# Altium footprint library Connector_Samtec_HLE_SMD.PcbLib: 290 footprints (part 7 of 24)
Each footprint in its own frame and in the unit in brackets; x right, y up, seen from the top. Pads: shape width x height; smd on the part's side, far side on the other; paste and mask are expansions set on the pad; w line width, h text height; cw(c..) or ccw(c..) is an arc to the next point about the centre after c.
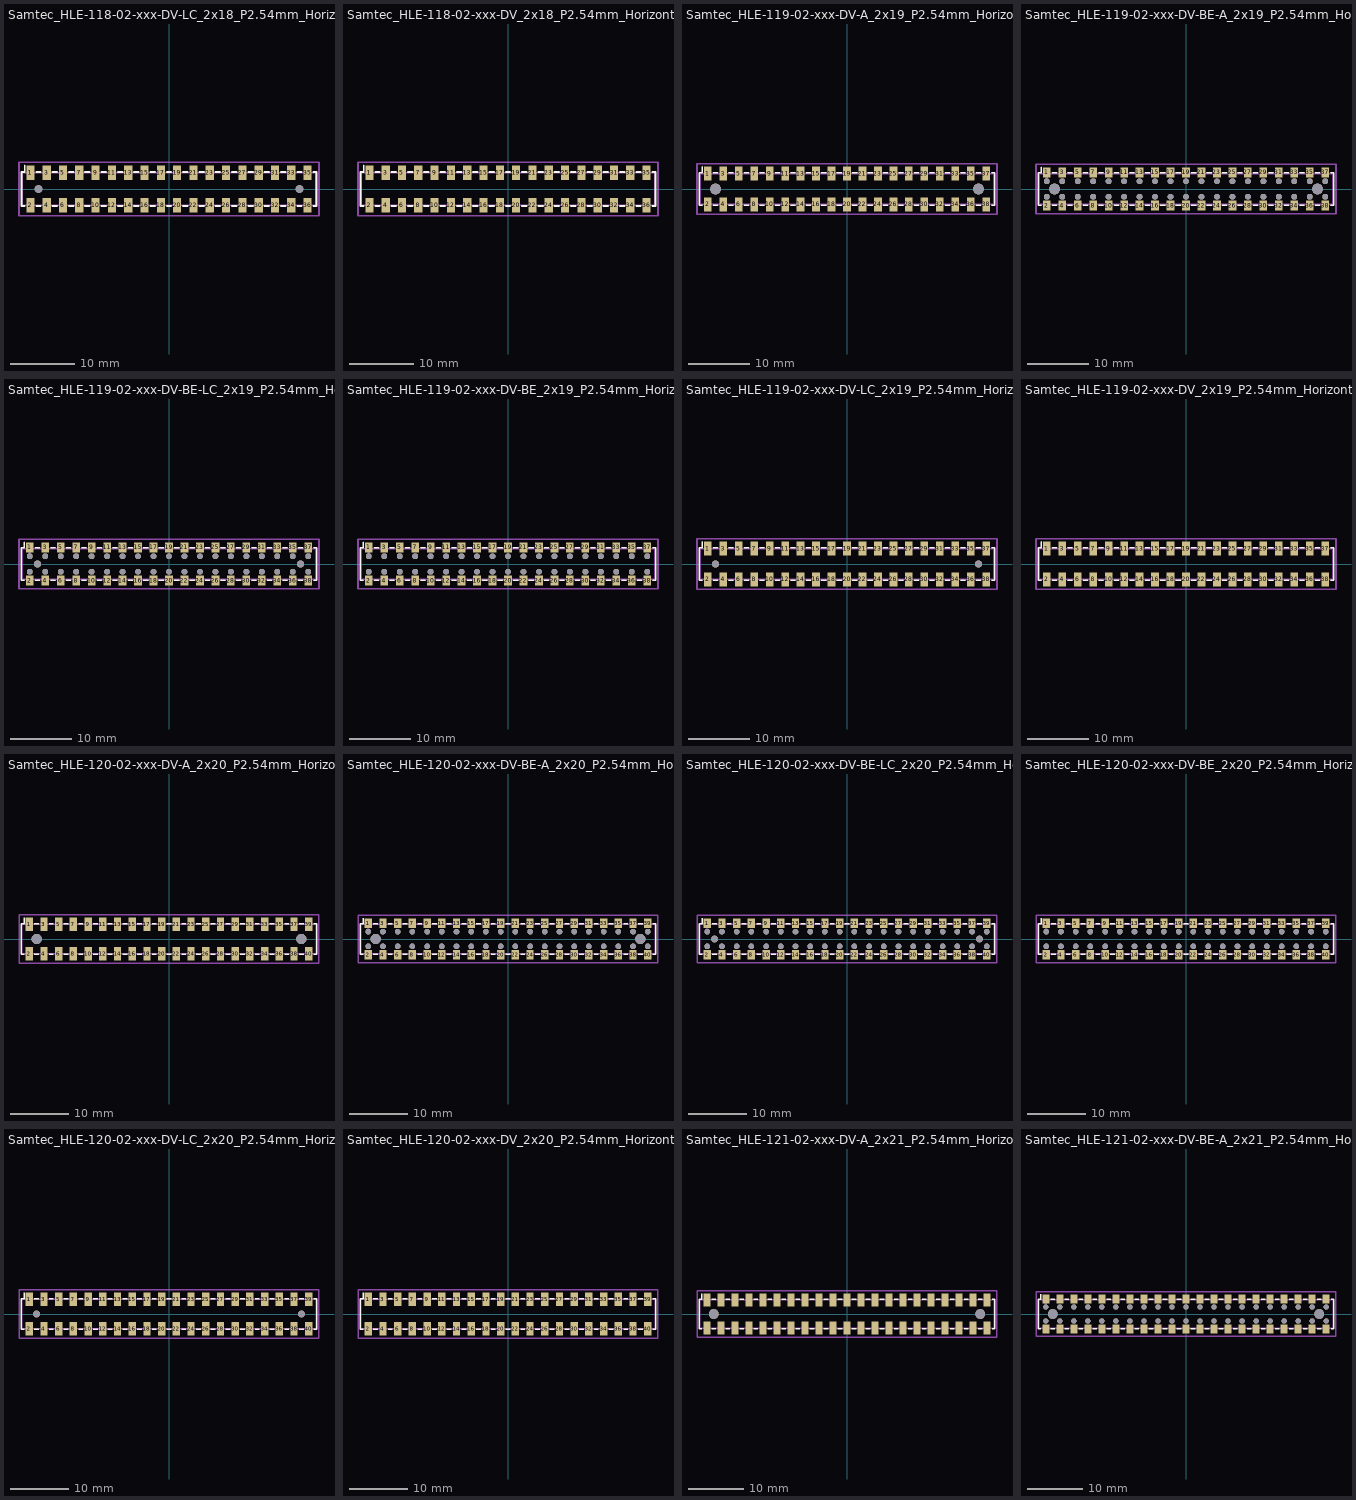
[diagram p6: the footprints below, top view; thin cyan lines are the x and y axes]

## Samtec_HLE-118-02-xxx-DV-LC_2x18_P2.54mm_Horizontal [mm]
pads (38):
  rect 1.27x2.29 smd: 1(-21.59,2.525) 2(-21.59,-2.525) 3(-19.05,2.525) 4(-19.05,-2.525) 5(-16.51,2.525) 6(-16.51,-2.525) 7(-13.97,2.525) 8(-13.97,-2.525) 9(-11.43,2.525) 10(-11.43,-2.525) 11(-8.89,2.525) 12(-8.89,-2.525) 13(-6.35,2.525) 14(-6.35,-2.525) 15(-3.81,2.525) 16(-3.81,-2.525) 17(-1.27,2.525) 18(-1.27,-2.525) 19(1.27,2.525) 20(1.27,-2.525) 21(3.81,2.525) 22(3.81,-2.525) 23(6.35,2.525) 24(6.35,-2.525) 25(8.89,2.525) 26(8.89,-2.525) 27(11.43,2.525) 28(11.43,-2.525) 29(13.97,2.525) 30(13.97,-2.525) 31(16.51,2.525) 32(16.51,-2.525) 33(19.05,2.525) 34(19.05,-2.525) 35(21.59,2.525) 36(21.59,-2.525)
  round 1.19 hole 1.19: Un1(-20.32,0) Un2(20.32,0)
F.SilkS:
  lines w0.254: -22.485,-2.65 -22.97,-2.65 -22.97,2.65 -22.485,2.65 -22.485,3.67 ; -20.695,-2.65 -19.945,-2.65 ; -20.695,2.65 -19.945,2.65 ; -18.155,-2.65 -17.405,-2.65 ; -18.155,2.65 -17.405,2.65 ; -15.615,-2.65 -14.865,-2.65 ; -15.615,2.65 -14.865,2.65 ; -13.075,-2.65 -12.325,-2.65 ; -13.075,2.65 -12.325,2.65 ; -10.535,-2.65 -9.785,-2.65 ; -10.535,2.65 -9.785,2.65 ; -7.995,-2.65 -7.245,-2.65 ; -7.995,2.65 -7.245,2.65 ; -5.455,-2.65 -4.705,-2.65 ; -5.455,2.65 -4.705,2.65 ; -2.915,-2.65 -2.165,-2.65 ; -2.915,2.65 -2.165,2.65 ; -0.375,-2.65 0.375,-2.65 ; -0.375,2.65 0.375,2.65 ; 2.165,-2.65 2.915,-2.65 ; 2.165,2.65 2.915,2.65 ; 4.705,-2.65 5.455,-2.65 ; 4.705,2.65 5.455,2.65 ; 7.245,-2.65 7.995,-2.65 ; 7.245,2.65 7.995,2.65 ; 9.785,-2.65 10.535,-2.65 ; 9.785,2.65 10.535,2.65 ; 12.325,-2.65 13.075,-2.65 ; 12.325,2.65 13.075,2.65 ; 14.865,-2.65 15.615,-2.65 ; 14.865,2.65 15.615,2.65 ; 17.405,-2.65 18.155,-2.65 ; 17.405,2.65 18.155,2.65 ; 19.945,-2.65 20.695,-2.65 ; 19.945,2.65 20.695,2.65 ; 22.485,-2.65 22.97,-2.65 22.97,2.65 22.485,2.65
Top Assembly:
  lines w0.254: -22.09,2.54 -21.59,1.833 -21.09,2.54 ; -22.86,-2.54 22.86,-2.54 22.86,2.54 -22.86,2.54 -22.86,-2.54
  text "'.Designator'" at -4.047,-2.68 h1
Top Courtyard:
  lines w0.254: -23.36,-4.17 23.36,-4.17 23.36,4.17 -23.36,4.17 -23.36,-4.17
Top Designator:
  text ".Designator" at -7.618,-0.508 h1.52

## Samtec_HLE-118-02-xxx-DV_2x18_P2.54mm_Horizontal [mm]
pads (36):
  rect 1.27x2.29 smd: 1(-21.59,2.525) 2(-21.59,-2.525) 3(-19.05,2.525) 4(-19.05,-2.525) 5(-16.51,2.525) 6(-16.51,-2.525) 7(-13.97,2.525) 8(-13.97,-2.525) 9(-11.43,2.525) 10(-11.43,-2.525) 11(-8.89,2.525) 12(-8.89,-2.525) 13(-6.35,2.525) 14(-6.35,-2.525) 15(-3.81,2.525) 16(-3.81,-2.525) 17(-1.27,2.525) 18(-1.27,-2.525) 19(1.27,2.525) 20(1.27,-2.525) 21(3.81,2.525) 22(3.81,-2.525) 23(6.35,2.525) 24(6.35,-2.525) 25(8.89,2.525) 26(8.89,-2.525) 27(11.43,2.525) 28(11.43,-2.525) 29(13.97,2.525) 30(13.97,-2.525) 31(16.51,2.525) 32(16.51,-2.525) 33(19.05,2.525) 34(19.05,-2.525) 35(21.59,2.525) 36(21.59,-2.525)
F.SilkS:
  lines w0.254: -22.485,-2.65 -22.97,-2.65 -22.97,2.65 -22.485,2.65 -22.485,3.67 ; -20.695,-2.65 -19.945,-2.65 ; -20.695,2.65 -19.945,2.65 ; -18.155,-2.65 -17.405,-2.65 ; -18.155,2.65 -17.405,2.65 ; -15.615,-2.65 -14.865,-2.65 ; -15.615,2.65 -14.865,2.65 ; -13.075,-2.65 -12.325,-2.65 ; -13.075,2.65 -12.325,2.65 ; -10.535,-2.65 -9.785,-2.65 ; -10.535,2.65 -9.785,2.65 ; -7.995,-2.65 -7.245,-2.65 ; -7.995,2.65 -7.245,2.65 ; -5.455,-2.65 -4.705,-2.65 ; -5.455,2.65 -4.705,2.65 ; -2.915,-2.65 -2.165,-2.65 ; -2.915,2.65 -2.165,2.65 ; -0.375,-2.65 0.375,-2.65 ; -0.375,2.65 0.375,2.65 ; 2.165,-2.65 2.915,-2.65 ; 2.165,2.65 2.915,2.65 ; 4.705,-2.65 5.455,-2.65 ; 4.705,2.65 5.455,2.65 ; 7.245,-2.65 7.995,-2.65 ; 7.245,2.65 7.995,2.65 ; 9.785,-2.65 10.535,-2.65 ; 9.785,2.65 10.535,2.65 ; 12.325,-2.65 13.075,-2.65 ; 12.325,2.65 13.075,2.65 ; 14.865,-2.65 15.615,-2.65 ; 14.865,2.65 15.615,2.65 ; 17.405,-2.65 18.155,-2.65 ; 17.405,2.65 18.155,2.65 ; 19.945,-2.65 20.695,-2.65 ; 19.945,2.65 20.695,2.65 ; 22.485,-2.65 22.97,-2.65 22.97,2.65 22.485,2.65
Top Assembly:
  lines w0.254: -22.09,2.54 -21.59,1.833 -21.09,2.54 ; -22.86,-2.54 22.86,-2.54 22.86,2.54 -22.86,2.54 -22.86,-2.54
  text "'.Designator'" at -4.047,-2.68 h1
Top Courtyard:
  lines w0.254: -23.36,-4.17 23.36,-4.17 23.36,4.17 -23.36,4.17 -23.36,-4.17
Top Designator:
  text ".Designator" at -7.618,-0.508 h1.52

## Samtec_HLE-119-02-xxx-DV-A_2x19_P2.54mm_Horizontal [mm]
pads (40):
  rect 1.27x2.29 smd: 1(-22.86,2.525) 2(-22.86,-2.525) 3(-20.32,2.525) 4(-20.32,-2.525) 5(-17.78,2.525) 6(-17.78,-2.525) 7(-15.24,2.525) 8(-15.24,-2.525) 9(-12.7,2.525) 10(-12.7,-2.525) 11(-10.16,2.525) 12(-10.16,-2.525) 13(-7.62,2.525) 14(-7.62,-2.525) 15(-5.08,2.525) 16(-5.08,-2.525) 17(-2.54,2.525) 18(-2.54,-2.525) 19(0,2.525) 20(0,-2.525) 21(2.54,2.525) 22(2.54,-2.525) 23(5.08,2.525) 24(5.08,-2.525) 25(7.62,2.525) 26(7.62,-2.525) 27(10.16,2.525) 28(10.16,-2.525) 29(12.7,2.525) 30(12.7,-2.525) 31(15.24,2.525) 32(15.24,-2.525) 33(17.78,2.525) 34(17.78,-2.525) 35(20.32,2.525) 36(20.32,-2.525) 37(22.86,2.525) 38(22.86,-2.525)
  round 1.78 hole 1.78: Un1(-21.59,0) Un2(21.59,0)
F.SilkS:
  lines w0.254: -23.755,-2.65 -24.24,-2.65 -24.24,2.65 -23.755,2.65 -23.755,3.67 ; -21.965,-2.65 -21.215,-2.65 ; -21.965,2.65 -21.215,2.65 ; -19.425,-2.65 -18.675,-2.65 ; -19.425,2.65 -18.675,2.65 ; -16.885,-2.65 -16.135,-2.65 ; -16.885,2.65 -16.135,2.65 ; -14.345,-2.65 -13.595,-2.65 ; -14.345,2.65 -13.595,2.65 ; -11.805,-2.65 -11.055,-2.65 ; -11.805,2.65 -11.055,2.65 ; -9.265,-2.65 -8.515,-2.65 ; -9.265,2.65 -8.515,2.65 ; -6.725,-2.65 -5.975,-2.65 ; -6.725,2.65 -5.975,2.65 ; -4.185,-2.65 -3.435,-2.65 ; -4.185,2.65 -3.435,2.65 ; -1.645,-2.65 -0.895,-2.65 ; -1.645,2.65 -0.895,2.65 ; 0.895,-2.65 1.645,-2.65 ; 0.895,2.65 1.645,2.65 ; 3.435,-2.65 4.185,-2.65 ; 3.435,2.65 4.185,2.65 ; 5.975,-2.65 6.725,-2.65 ; 5.975,2.65 6.725,2.65 ; 8.515,-2.65 9.265,-2.65 ; 8.515,2.65 9.265,2.65 ; 11.055,-2.65 11.805,-2.65 ; 11.055,2.65 11.805,2.65 ; 13.595,-2.65 14.345,-2.65 ; 13.595,2.65 14.345,2.65 ; 16.135,-2.65 16.885,-2.65 ; 16.135,2.65 16.885,2.65 ; 18.675,-2.65 19.425,-2.65 ; 18.675,2.65 19.425,2.65 ; 21.215,-2.65 21.965,-2.65 ; 21.215,2.65 21.965,2.65 ; 23.755,-2.65 24.24,-2.65 24.24,2.65 23.755,2.65
Top Assembly:
  lines w0.254: -23.36,2.54 -22.86,1.833 -22.36,2.54 ; -24.13,-2.54 24.13,-2.54 24.13,2.54 -24.13,2.54 -24.13,-2.54
  text "'.Designator'" at -4.047,-2.68 h1
Top Courtyard:
  lines w0.254: -24.63,-4.17 24.63,-4.17 24.63,4.17 -24.63,4.17 -24.63,-4.17
Top Designator:
  text ".Designator" at -7.618,-0.508 h1.52

## Samtec_HLE-119-02-xxx-DV-BE-A_2x19_P2.54mm_Horizontal [mm]
pads (78):
  rect 1.27x1.68 smd: 1(-22.86,2.72) 2(-22.86,-2.72) 3(-20.32,2.72) 4(-20.32,-2.72) 5(-17.78,2.72) 6(-17.78,-2.72) 7(-15.24,2.72) 8(-15.24,-2.72) 9(-12.7,2.72) 10(-12.7,-2.72) 11(-10.16,2.72) 12(-10.16,-2.72) 13(-7.62,2.72) 14(-7.62,-2.72) 15(-5.08,2.72) 16(-5.08,-2.72) 17(-2.54,2.72) 18(-2.54,-2.72) 19(0,2.72) 20(0,-2.72) 21(2.54,2.72) 22(2.54,-2.72) 23(5.08,2.72) 24(5.08,-2.72) 25(7.62,2.72) 26(7.62,-2.72) 27(10.16,2.72) 28(10.16,-2.72) 29(12.7,2.72) 30(12.7,-2.72) 31(15.24,2.72) 32(15.24,-2.72) 33(17.78,2.72) 34(17.78,-2.72) 35(20.32,2.72) 36(20.32,-2.72) 37(22.86,2.72) 38(22.86,-2.72)
  round 0.97 hole 0.97: Un1(-22.86,1.27) Un2(-22.86,-1.27) Un4(-20.32,1.27) Un5(-20.32,-1.27) Un6(-17.78,1.27) Un7(-17.78,-1.27) Un8(-15.24,1.27) Un9(-15.24,-1.27) Un10(-12.7,1.27) Un11(-12.7,-1.27) Un12(-10.16,1.27) Un13(-10.16,-1.27) Un14(-7.62,1.27) Un15(-7.62,-1.27) Un16(-5.08,1.27) Un17(-5.08,-1.27) Un18(-2.54,1.27) Un19(-2.54,-1.27) Un20(0,1.27) Un21(0,-1.27) Un22(2.54,1.27) Un23(2.54,-1.27) Un24(5.08,1.27) Un25(5.08,-1.27) Un26(7.62,1.27) Un27(7.62,-1.27) Un28(10.16,1.27) Un29(10.16,-1.27) Un30(12.7,1.27) Un31(12.7,-1.27) Un32(15.24,1.27) Un33(15.24,-1.27) Un34(17.78,1.27) Un35(17.78,-1.27) Un36(20.32,1.27) Un37(20.32,-1.27) Un39(22.86,1.27) Un40(22.86,-1.27)
  round 1.78 hole 1.78: Un3(-21.59,0) Un38(21.59,0)
F.SilkS:
  lines w0.254: -23.755,-2.65 -24.24,-2.65 -24.24,2.65 -23.755,2.65 -23.755,3.56 ; -21.965,-2.65 -21.215,-2.65 ; -21.965,2.65 -21.215,2.65 ; -19.425,-2.65 -18.675,-2.65 ; -19.425,2.65 -18.675,2.65 ; -16.885,-2.65 -16.135,-2.65 ; -16.885,2.65 -16.135,2.65 ; -14.345,-2.65 -13.595,-2.65 ; -14.345,2.65 -13.595,2.65 ; -11.805,-2.65 -11.055,-2.65 ; -11.805,2.65 -11.055,2.65 ; -9.265,-2.65 -8.515,-2.65 ; -9.265,2.65 -8.515,2.65 ; -6.725,-2.65 -5.975,-2.65 ; -6.725,2.65 -5.975,2.65 ; -4.185,-2.65 -3.435,-2.65 ; -4.185,2.65 -3.435,2.65 ; -1.645,-2.65 -0.895,-2.65 ; -1.645,2.65 -0.895,2.65 ; 0.895,-2.65 1.645,-2.65 ; 0.895,2.65 1.645,2.65 ; 3.435,-2.65 4.185,-2.65 ; 3.435,2.65 4.185,2.65 ; 5.975,-2.65 6.725,-2.65 ; 5.975,2.65 6.725,2.65 ; 8.515,-2.65 9.265,-2.65 ; 8.515,2.65 9.265,2.65 ; 11.055,-2.65 11.805,-2.65 ; 11.055,2.65 11.805,2.65 ; 13.595,-2.65 14.345,-2.65 ; 13.595,2.65 14.345,2.65 ; 16.135,-2.65 16.885,-2.65 ; 16.135,2.65 16.885,2.65 ; 18.675,-2.65 19.425,-2.65 ; 18.675,2.65 19.425,2.65 ; 21.215,-2.65 21.965,-2.65 ; 21.215,2.65 21.965,2.65 ; 23.755,-2.65 24.24,-2.65 24.24,2.65 23.755,2.65
Top Assembly:
  lines w0.254: -23.36,2.54 -22.86,1.833 -22.36,2.54 ; -24.13,-2.54 24.13,-2.54 24.13,2.54 -24.13,2.54 -24.13,-2.54
  text "'.Designator'" at -4.047,-2.68 h1
Top Courtyard:
  lines w0.254: -24.63,-4.07 24.63,-4.07 24.63,4.07 -24.63,4.07 -24.63,-4.07
Top Designator:
  text ".Designator" at -7.618,-0.508 h1.52

## Samtec_HLE-119-02-xxx-DV-BE-LC_2x19_P2.54mm_Horizontal [mm]
pads (78):
  rect 1.27x1.68 smd: 1(-22.86,2.72) 2(-22.86,-2.72) 3(-20.32,2.72) 4(-20.32,-2.72) 5(-17.78,2.72) 6(-17.78,-2.72) 7(-15.24,2.72) 8(-15.24,-2.72) 9(-12.7,2.72) 10(-12.7,-2.72) 11(-10.16,2.72) 12(-10.16,-2.72) 13(-7.62,2.72) 14(-7.62,-2.72) 15(-5.08,2.72) 16(-5.08,-2.72) 17(-2.54,2.72) 18(-2.54,-2.72) 19(0,2.72) 20(0,-2.72) 21(2.54,2.72) 22(2.54,-2.72) 23(5.08,2.72) 24(5.08,-2.72) 25(7.62,2.72) 26(7.62,-2.72) 27(10.16,2.72) 28(10.16,-2.72) 29(12.7,2.72) 30(12.7,-2.72) 31(15.24,2.72) 32(15.24,-2.72) 33(17.78,2.72) 34(17.78,-2.72) 35(20.32,2.72) 36(20.32,-2.72) 37(22.86,2.72) 38(22.86,-2.72)
  round 0.97 hole 0.97: Un1(-22.86,1.27) Un2(-22.86,-1.27) Un4(-20.32,1.27) Un5(-20.32,-1.27) Un6(-17.78,1.27) Un7(-17.78,-1.27) Un8(-15.24,1.27) Un9(-15.24,-1.27) Un10(-12.7,1.27) Un11(-12.7,-1.27) Un12(-10.16,1.27) Un13(-10.16,-1.27) Un14(-7.62,1.27) Un15(-7.62,-1.27) Un16(-5.08,1.27) Un17(-5.08,-1.27) Un18(-2.54,1.27) Un19(-2.54,-1.27) Un20(0,1.27) Un21(0,-1.27) Un22(2.54,1.27) Un23(2.54,-1.27) Un24(5.08,1.27) Un25(5.08,-1.27) Un26(7.62,1.27) Un27(7.62,-1.27) Un28(10.16,1.27) Un29(10.16,-1.27) Un30(12.7,1.27) Un31(12.7,-1.27) Un32(15.24,1.27) Un33(15.24,-1.27) Un34(17.78,1.27) Un35(17.78,-1.27) Un36(20.32,1.27) Un37(20.32,-1.27) Un39(22.86,1.27) Un40(22.86,-1.27)
  round 1.19 hole 1.19: Un3(-21.59,0) Un38(21.59,0)
F.SilkS:
  lines w0.254: -23.755,-2.65 -24.24,-2.65 -24.24,2.65 -23.755,2.65 -23.755,3.56 ; -21.965,-2.65 -21.215,-2.65 ; -21.965,2.65 -21.215,2.65 ; -19.425,-2.65 -18.675,-2.65 ; -19.425,2.65 -18.675,2.65 ; -16.885,-2.65 -16.135,-2.65 ; -16.885,2.65 -16.135,2.65 ; -14.345,-2.65 -13.595,-2.65 ; -14.345,2.65 -13.595,2.65 ; -11.805,-2.65 -11.055,-2.65 ; -11.805,2.65 -11.055,2.65 ; -9.265,-2.65 -8.515,-2.65 ; -9.265,2.65 -8.515,2.65 ; -6.725,-2.65 -5.975,-2.65 ; -6.725,2.65 -5.975,2.65 ; -4.185,-2.65 -3.435,-2.65 ; -4.185,2.65 -3.435,2.65 ; -1.645,-2.65 -0.895,-2.65 ; -1.645,2.65 -0.895,2.65 ; 0.895,-2.65 1.645,-2.65 ; 0.895,2.65 1.645,2.65 ; 3.435,-2.65 4.185,-2.65 ; 3.435,2.65 4.185,2.65 ; 5.975,-2.65 6.725,-2.65 ; 5.975,2.65 6.725,2.65 ; 8.515,-2.65 9.265,-2.65 ; 8.515,2.65 9.265,2.65 ; 11.055,-2.65 11.805,-2.65 ; 11.055,2.65 11.805,2.65 ; 13.595,-2.65 14.345,-2.65 ; 13.595,2.65 14.345,2.65 ; 16.135,-2.65 16.885,-2.65 ; 16.135,2.65 16.885,2.65 ; 18.675,-2.65 19.425,-2.65 ; 18.675,2.65 19.425,2.65 ; 21.215,-2.65 21.965,-2.65 ; 21.215,2.65 21.965,2.65 ; 23.755,-2.65 24.24,-2.65 24.24,2.65 23.755,2.65
Top Assembly:
  lines w0.254: -23.36,2.54 -22.86,1.833 -22.36,2.54 ; -24.13,-2.54 24.13,-2.54 24.13,2.54 -24.13,2.54 -24.13,-2.54
  text "'.Designator'" at -4.047,-2.68 h1
Top Courtyard:
  lines w0.254: -24.63,-4.07 24.63,-4.07 24.63,4.07 -24.63,4.07 -24.63,-4.07
Top Designator:
  text ".Designator" at -7.618,-0.508 h1.52

## Samtec_HLE-119-02-xxx-DV-BE_2x19_P2.54mm_Horizontal [mm]
pads (76):
  rect 1.27x1.68 smd: 1(-22.86,2.72) 2(-22.86,-2.72) 3(-20.32,2.72) 4(-20.32,-2.72) 5(-17.78,2.72) 6(-17.78,-2.72) 7(-15.24,2.72) 8(-15.24,-2.72) 9(-12.7,2.72) 10(-12.7,-2.72) 11(-10.16,2.72) 12(-10.16,-2.72) 13(-7.62,2.72) 14(-7.62,-2.72) 15(-5.08,2.72) 16(-5.08,-2.72) 17(-2.54,2.72) 18(-2.54,-2.72) 19(0,2.72) 20(0,-2.72) 21(2.54,2.72) 22(2.54,-2.72) 23(5.08,2.72) 24(5.08,-2.72) 25(7.62,2.72) 26(7.62,-2.72) 27(10.16,2.72) 28(10.16,-2.72) 29(12.7,2.72) 30(12.7,-2.72) 31(15.24,2.72) 32(15.24,-2.72) 33(17.78,2.72) 34(17.78,-2.72) 35(20.32,2.72) 36(20.32,-2.72) 37(22.86,2.72) 38(22.86,-2.72)
  round 0.97 hole 0.97: Un1(-22.86,1.27) Un2(-22.86,-1.27) Un3(-20.32,1.27) Un4(-20.32,-1.27) Un5(-17.78,1.27) Un6(-17.78,-1.27) Un7(-15.24,1.27) Un8(-15.24,-1.27) Un9(-12.7,1.27) Un10(-12.7,-1.27) Un11(-10.16,1.27) Un12(-10.16,-1.27) Un13(-7.62,1.27) Un14(-7.62,-1.27) Un15(-5.08,1.27) Un16(-5.08,-1.27) Un17(-2.54,1.27) Un18(-2.54,-1.27) Un19(0,1.27) Un20(0,-1.27) Un21(2.54,1.27) Un22(2.54,-1.27) Un23(5.08,1.27) Un24(5.08,-1.27) Un25(7.62,1.27) Un26(7.62,-1.27) Un27(10.16,1.27) Un28(10.16,-1.27) Un29(12.7,1.27) Un30(12.7,-1.27) Un31(15.24,1.27) Un32(15.24,-1.27) Un33(17.78,1.27) Un34(17.78,-1.27) Un35(20.32,1.27) Un36(20.32,-1.27) Un37(22.86,1.27) Un38(22.86,-1.27)
F.SilkS:
  lines w0.254: -23.755,-2.65 -24.24,-2.65 -24.24,2.65 -23.755,2.65 -23.755,3.56 ; -21.965,-2.65 -21.215,-2.65 ; -21.965,2.65 -21.215,2.65 ; -19.425,-2.65 -18.675,-2.65 ; -19.425,2.65 -18.675,2.65 ; -16.885,-2.65 -16.135,-2.65 ; -16.885,2.65 -16.135,2.65 ; -14.345,-2.65 -13.595,-2.65 ; -14.345,2.65 -13.595,2.65 ; -11.805,-2.65 -11.055,-2.65 ; -11.805,2.65 -11.055,2.65 ; -9.265,-2.65 -8.515,-2.65 ; -9.265,2.65 -8.515,2.65 ; -6.725,-2.65 -5.975,-2.65 ; -6.725,2.65 -5.975,2.65 ; -4.185,-2.65 -3.435,-2.65 ; -4.185,2.65 -3.435,2.65 ; -1.645,-2.65 -0.895,-2.65 ; -1.645,2.65 -0.895,2.65 ; 0.895,-2.65 1.645,-2.65 ; 0.895,2.65 1.645,2.65 ; 3.435,-2.65 4.185,-2.65 ; 3.435,2.65 4.185,2.65 ; 5.975,-2.65 6.725,-2.65 ; 5.975,2.65 6.725,2.65 ; 8.515,-2.65 9.265,-2.65 ; 8.515,2.65 9.265,2.65 ; 11.055,-2.65 11.805,-2.65 ; 11.055,2.65 11.805,2.65 ; 13.595,-2.65 14.345,-2.65 ; 13.595,2.65 14.345,2.65 ; 16.135,-2.65 16.885,-2.65 ; 16.135,2.65 16.885,2.65 ; 18.675,-2.65 19.425,-2.65 ; 18.675,2.65 19.425,2.65 ; 21.215,-2.65 21.965,-2.65 ; 21.215,2.65 21.965,2.65 ; 23.755,-2.65 24.24,-2.65 24.24,2.65 23.755,2.65
Top Assembly:
  lines w0.254: -23.36,2.54 -22.86,1.833 -22.36,2.54 ; -24.13,-2.54 24.13,-2.54 24.13,2.54 -24.13,2.54 -24.13,-2.54
  text "'.Designator'" at -4.047,-2.68 h1
Top Courtyard:
  lines w0.254: -24.63,-4.07 24.63,-4.07 24.63,4.07 -24.63,4.07 -24.63,-4.07
Top Designator:
  text ".Designator" at -7.618,-0.508 h1.52

## Samtec_HLE-119-02-xxx-DV-LC_2x19_P2.54mm_Horizontal [mm]
pads (40):
  rect 1.27x2.29 smd: 1(-22.86,2.525) 2(-22.86,-2.525) 3(-20.32,2.525) 4(-20.32,-2.525) 5(-17.78,2.525) 6(-17.78,-2.525) 7(-15.24,2.525) 8(-15.24,-2.525) 9(-12.7,2.525) 10(-12.7,-2.525) 11(-10.16,2.525) 12(-10.16,-2.525) 13(-7.62,2.525) 14(-7.62,-2.525) 15(-5.08,2.525) 16(-5.08,-2.525) 17(-2.54,2.525) 18(-2.54,-2.525) 19(0,2.525) 20(0,-2.525) 21(2.54,2.525) 22(2.54,-2.525) 23(5.08,2.525) 24(5.08,-2.525) 25(7.62,2.525) 26(7.62,-2.525) 27(10.16,2.525) 28(10.16,-2.525) 29(12.7,2.525) 30(12.7,-2.525) 31(15.24,2.525) 32(15.24,-2.525) 33(17.78,2.525) 34(17.78,-2.525) 35(20.32,2.525) 36(20.32,-2.525) 37(22.86,2.525) 38(22.86,-2.525)
  round 1.19 hole 1.19: Un1(-21.59,0) Un2(21.59,0)
F.SilkS:
  lines w0.254: -23.755,-2.65 -24.24,-2.65 -24.24,2.65 -23.755,2.65 -23.755,3.67 ; -21.965,-2.65 -21.215,-2.65 ; -21.965,2.65 -21.215,2.65 ; -19.425,-2.65 -18.675,-2.65 ; -19.425,2.65 -18.675,2.65 ; -16.885,-2.65 -16.135,-2.65 ; -16.885,2.65 -16.135,2.65 ; -14.345,-2.65 -13.595,-2.65 ; -14.345,2.65 -13.595,2.65 ; -11.805,-2.65 -11.055,-2.65 ; -11.805,2.65 -11.055,2.65 ; -9.265,-2.65 -8.515,-2.65 ; -9.265,2.65 -8.515,2.65 ; -6.725,-2.65 -5.975,-2.65 ; -6.725,2.65 -5.975,2.65 ; -4.185,-2.65 -3.435,-2.65 ; -4.185,2.65 -3.435,2.65 ; -1.645,-2.65 -0.895,-2.65 ; -1.645,2.65 -0.895,2.65 ; 0.895,-2.65 1.645,-2.65 ; 0.895,2.65 1.645,2.65 ; 3.435,-2.65 4.185,-2.65 ; 3.435,2.65 4.185,2.65 ; 5.975,-2.65 6.725,-2.65 ; 5.975,2.65 6.725,2.65 ; 8.515,-2.65 9.265,-2.65 ; 8.515,2.65 9.265,2.65 ; 11.055,-2.65 11.805,-2.65 ; 11.055,2.65 11.805,2.65 ; 13.595,-2.65 14.345,-2.65 ; 13.595,2.65 14.345,2.65 ; 16.135,-2.65 16.885,-2.65 ; 16.135,2.65 16.885,2.65 ; 18.675,-2.65 19.425,-2.65 ; 18.675,2.65 19.425,2.65 ; 21.215,-2.65 21.965,-2.65 ; 21.215,2.65 21.965,2.65 ; 23.755,-2.65 24.24,-2.65 24.24,2.65 23.755,2.65
Top Assembly:
  lines w0.254: -23.36,2.54 -22.86,1.833 -22.36,2.54 ; -24.13,-2.54 24.13,-2.54 24.13,2.54 -24.13,2.54 -24.13,-2.54
  text "'.Designator'" at -4.047,-2.68 h1
Top Courtyard:
  lines w0.254: -24.63,-4.17 24.63,-4.17 24.63,4.17 -24.63,4.17 -24.63,-4.17
Top Designator:
  text ".Designator" at -7.618,-0.508 h1.52

## Samtec_HLE-119-02-xxx-DV_2x19_P2.54mm_Horizontal [mm]
pads (38):
  rect 1.27x2.29 smd: 1(-22.86,2.525) 2(-22.86,-2.525) 3(-20.32,2.525) 4(-20.32,-2.525) 5(-17.78,2.525) 6(-17.78,-2.525) 7(-15.24,2.525) 8(-15.24,-2.525) 9(-12.7,2.525) 10(-12.7,-2.525) 11(-10.16,2.525) 12(-10.16,-2.525) 13(-7.62,2.525) 14(-7.62,-2.525) 15(-5.08,2.525) 16(-5.08,-2.525) 17(-2.54,2.525) 18(-2.54,-2.525) 19(0,2.525) 20(0,-2.525) 21(2.54,2.525) 22(2.54,-2.525) 23(5.08,2.525) 24(5.08,-2.525) 25(7.62,2.525) 26(7.62,-2.525) 27(10.16,2.525) 28(10.16,-2.525) 29(12.7,2.525) 30(12.7,-2.525) 31(15.24,2.525) 32(15.24,-2.525) 33(17.78,2.525) 34(17.78,-2.525) 35(20.32,2.525) 36(20.32,-2.525) 37(22.86,2.525) 38(22.86,-2.525)
F.SilkS:
  lines w0.254: -23.755,-2.65 -24.24,-2.65 -24.24,2.65 -23.755,2.65 -23.755,3.67 ; -21.965,-2.65 -21.215,-2.65 ; -21.965,2.65 -21.215,2.65 ; -19.425,-2.65 -18.675,-2.65 ; -19.425,2.65 -18.675,2.65 ; -16.885,-2.65 -16.135,-2.65 ; -16.885,2.65 -16.135,2.65 ; -14.345,-2.65 -13.595,-2.65 ; -14.345,2.65 -13.595,2.65 ; -11.805,-2.65 -11.055,-2.65 ; -11.805,2.65 -11.055,2.65 ; -9.265,-2.65 -8.515,-2.65 ; -9.265,2.65 -8.515,2.65 ; -6.725,-2.65 -5.975,-2.65 ; -6.725,2.65 -5.975,2.65 ; -4.185,-2.65 -3.435,-2.65 ; -4.185,2.65 -3.435,2.65 ; -1.645,-2.65 -0.895,-2.65 ; -1.645,2.65 -0.895,2.65 ; 0.895,-2.65 1.645,-2.65 ; 0.895,2.65 1.645,2.65 ; 3.435,-2.65 4.185,-2.65 ; 3.435,2.65 4.185,2.65 ; 5.975,-2.65 6.725,-2.65 ; 5.975,2.65 6.725,2.65 ; 8.515,-2.65 9.265,-2.65 ; 8.515,2.65 9.265,2.65 ; 11.055,-2.65 11.805,-2.65 ; 11.055,2.65 11.805,2.65 ; 13.595,-2.65 14.345,-2.65 ; 13.595,2.65 14.345,2.65 ; 16.135,-2.65 16.885,-2.65 ; 16.135,2.65 16.885,2.65 ; 18.675,-2.65 19.425,-2.65 ; 18.675,2.65 19.425,2.65 ; 21.215,-2.65 21.965,-2.65 ; 21.215,2.65 21.965,2.65 ; 23.755,-2.65 24.24,-2.65 24.24,2.65 23.755,2.65
Top Assembly:
  lines w0.254: -23.36,2.54 -22.86,1.833 -22.36,2.54 ; -24.13,-2.54 24.13,-2.54 24.13,2.54 -24.13,2.54 -24.13,-2.54
  text "'.Designator'" at -4.047,-2.68 h1
Top Courtyard:
  lines w0.254: -24.63,-4.17 24.63,-4.17 24.63,4.17 -24.63,4.17 -24.63,-4.17
Top Designator:
  text ".Designator" at -7.618,-0.508 h1.52

## Samtec_HLE-120-02-xxx-DV-A_2x20_P2.54mm_Horizontal [mm]
pads (42):
  rect 1.27x2.29 smd: 1(-24.13,2.525) 2(-24.13,-2.525) 3(-21.59,2.525) 4(-21.59,-2.525) 5(-19.05,2.525) 6(-19.05,-2.525) 7(-16.51,2.525) 8(-16.51,-2.525) 9(-13.97,2.525) 10(-13.97,-2.525) 11(-11.43,2.525) 12(-11.43,-2.525) 13(-8.89,2.525) 14(-8.89,-2.525) 15(-6.35,2.525) 16(-6.35,-2.525) 17(-3.81,2.525) 18(-3.81,-2.525) 19(-1.27,2.525) 20(-1.27,-2.525) 21(1.27,2.525) 22(1.27,-2.525) 23(3.81,2.525) 24(3.81,-2.525) 25(6.35,2.525) 26(6.35,-2.525) 27(8.89,2.525) 28(8.89,-2.525) 29(11.43,2.525) 30(11.43,-2.525) 31(13.97,2.525) 32(13.97,-2.525) 33(16.51,2.525) 34(16.51,-2.525) 35(19.05,2.525) 36(19.05,-2.525) 37(21.59,2.525) 38(21.59,-2.525) 39(24.13,2.525) 40(24.13,-2.525)
  round 1.78 hole 1.78: Un1(-22.86,0) Un2(22.86,0)
F.SilkS:
  lines w0.254: -25.025,-2.65 -25.51,-2.65 -25.51,2.65 -25.025,2.65 -25.025,3.67 ; -23.235,-2.65 -22.485,-2.65 ; -23.235,2.65 -22.485,2.65 ; -20.695,-2.65 -19.945,-2.65 ; -20.695,2.65 -19.945,2.65 ; -18.155,-2.65 -17.405,-2.65 ; -18.155,2.65 -17.405,2.65 ; -15.615,-2.65 -14.865,-2.65 ; -15.615,2.65 -14.865,2.65 ; -13.075,-2.65 -12.325,-2.65 ; -13.075,2.65 -12.325,2.65 ; -10.535,-2.65 -9.785,-2.65 ; -10.535,2.65 -9.785,2.65 ; -7.995,-2.65 -7.245,-2.65 ; -7.995,2.65 -7.245,2.65 ; -5.455,-2.65 -4.705,-2.65 ; -5.455,2.65 -4.705,2.65 ; -2.915,-2.65 -2.165,-2.65 ; -2.915,2.65 -2.165,2.65 ; -0.375,-2.65 0.375,-2.65 ; -0.375,2.65 0.375,2.65 ; 2.165,-2.65 2.915,-2.65 ; 2.165,2.65 2.915,2.65 ; 4.705,-2.65 5.455,-2.65 ; 4.705,2.65 5.455,2.65 ; 7.245,-2.65 7.995,-2.65 ; 7.245,2.65 7.995,2.65 ; 9.785,-2.65 10.535,-2.65 ; 9.785,2.65 10.535,2.65 ; 12.325,-2.65 13.075,-2.65 ; 12.325,2.65 13.075,2.65 ; 14.865,-2.65 15.615,-2.65 ; 14.865,2.65 15.615,2.65 ; 17.405,-2.65 18.155,-2.65 ; 17.405,2.65 18.155,2.65 ; 19.945,-2.65 20.695,-2.65 ; 19.945,2.65 20.695,2.65 ; 22.485,-2.65 23.235,-2.65 ; 22.485,2.65 23.235,2.65 ; 25.025,-2.65 25.51,-2.65 25.51,2.65 25.025,2.65
Top Assembly:
  lines w0.254: -24.63,2.54 -24.13,1.833 -23.63,2.54 ; -25.4,-2.54 25.4,-2.54 25.4,2.54 -25.4,2.54 -25.4,-2.54
  text "'.Designator'" at -4.047,-2.68 h1
Top Courtyard:
  lines w0.254: -25.9,-4.17 25.9,-4.17 25.9,4.17 -25.9,4.17 -25.9,-4.17
Top Designator:
  text ".Designator" at -7.618,-0.508 h1.52

## Samtec_HLE-120-02-xxx-DV-BE-A_2x20_P2.54mm_Horizontal [mm]
pads (82):
  rect 1.27x1.68 smd: 1(-24.13,2.72) 2(-24.13,-2.72) 3(-21.59,2.72) 4(-21.59,-2.72) 5(-19.05,2.72) 6(-19.05,-2.72) 7(-16.51,2.72) 8(-16.51,-2.72) 9(-13.97,2.72) 10(-13.97,-2.72) 11(-11.43,2.72) 12(-11.43,-2.72) 13(-8.89,2.72) 14(-8.89,-2.72) 15(-6.35,2.72) 16(-6.35,-2.72) 17(-3.81,2.72) 18(-3.81,-2.72) 19(-1.27,2.72) 20(-1.27,-2.72) 21(1.27,2.72) 22(1.27,-2.72) 23(3.81,2.72) 24(3.81,-2.72) 25(6.35,2.72) 26(6.35,-2.72) 27(8.89,2.72) 28(8.89,-2.72) 29(11.43,2.72) 30(11.43,-2.72) 31(13.97,2.72) 32(13.97,-2.72) 33(16.51,2.72) 34(16.51,-2.72) 35(19.05,2.72) 36(19.05,-2.72) 37(21.59,2.72) 38(21.59,-2.72) 39(24.13,2.72) 40(24.13,-2.72)
  round 0.97 hole 0.97: Un1(-24.13,1.27) Un2(-24.13,-1.27) Un4(-21.59,1.27) Un5(-21.59,-1.27) Un6(-19.05,1.27) Un7(-19.05,-1.27) Un8(-16.51,1.27) Un9(-16.51,-1.27) Un10(-13.97,1.27) Un11(-13.97,-1.27) Un12(-11.43,1.27) Un13(-11.43,-1.27) Un14(-8.89,1.27) Un15(-8.89,-1.27) Un16(-6.35,1.27) Un17(-6.35,-1.27) Un18(-3.81,1.27) Un19(-3.81,-1.27) Un20(-1.27,1.27) Un21(-1.27,-1.27) Un22(1.27,1.27) Un23(1.27,-1.27) Un24(3.81,1.27) Un25(3.81,-1.27) Un26(6.35,1.27) Un27(6.35,-1.27) Un28(8.89,1.27) Un29(8.89,-1.27) Un30(11.43,1.27) Un31(11.43,-1.27) Un32(13.97,1.27) Un33(13.97,-1.27) Un34(16.51,1.27) Un35(16.51,-1.27) Un36(19.05,1.27) Un37(19.05,-1.27) Un38(21.59,1.27) Un39(21.59,-1.27) Un41(24.13,1.27) Un42(24.13,-1.27)
  round 1.78 hole 1.78: Un3(-22.86,0) Un40(22.86,0)
F.SilkS:
  lines w0.254: -25.025,-2.65 -25.51,-2.65 -25.51,2.65 -25.025,2.65 -25.025,3.56 ; -23.235,-2.65 -22.485,-2.65 ; -23.235,2.65 -22.485,2.65 ; -20.695,-2.65 -19.945,-2.65 ; -20.695,2.65 -19.945,2.65 ; -18.155,-2.65 -17.405,-2.65 ; -18.155,2.65 -17.405,2.65 ; -15.615,-2.65 -14.865,-2.65 ; -15.615,2.65 -14.865,2.65 ; -13.075,-2.65 -12.325,-2.65 ; -13.075,2.65 -12.325,2.65 ; -10.535,-2.65 -9.785,-2.65 ; -10.535,2.65 -9.785,2.65 ; -7.995,-2.65 -7.245,-2.65 ; -7.995,2.65 -7.245,2.65 ; -5.455,-2.65 -4.705,-2.65 ; -5.455,2.65 -4.705,2.65 ; -2.915,-2.65 -2.165,-2.65 ; -2.915,2.65 -2.165,2.65 ; -0.375,-2.65 0.375,-2.65 ; -0.375,2.65 0.375,2.65 ; 2.165,-2.65 2.915,-2.65 ; 2.165,2.65 2.915,2.65 ; 4.705,-2.65 5.455,-2.65 ; 4.705,2.65 5.455,2.65 ; 7.245,-2.65 7.995,-2.65 ; 7.245,2.65 7.995,2.65 ; 9.785,-2.65 10.535,-2.65 ; 9.785,2.65 10.535,2.65 ; 12.325,-2.65 13.075,-2.65 ; 12.325,2.65 13.075,2.65 ; 14.865,-2.65 15.615,-2.65 ; 14.865,2.65 15.615,2.65 ; 17.405,-2.65 18.155,-2.65 ; 17.405,2.65 18.155,2.65 ; 19.945,-2.65 20.695,-2.65 ; 19.945,2.65 20.695,2.65 ; 22.485,-2.65 23.235,-2.65 ; 22.485,2.65 23.235,2.65 ; 25.025,-2.65 25.51,-2.65 25.51,2.65 25.025,2.65
Top Assembly:
  lines w0.254: -24.63,2.54 -24.13,1.833 -23.63,2.54 ; -25.4,-2.54 25.4,-2.54 25.4,2.54 -25.4,2.54 -25.4,-2.54
  text "'.Designator'" at -4.047,-2.68 h1
Top Courtyard:
  lines w0.254: -25.9,-4.07 25.9,-4.07 25.9,4.07 -25.9,4.07 -25.9,-4.07
Top Designator:
  text ".Designator" at -7.618,-0.508 h1.52

## Samtec_HLE-120-02-xxx-DV-BE-LC_2x20_P2.54mm_Horizontal [mm]
pads (82):
  rect 1.27x1.68 smd: 1(-24.13,2.72) 2(-24.13,-2.72) 3(-21.59,2.72) 4(-21.59,-2.72) 5(-19.05,2.72) 6(-19.05,-2.72) 7(-16.51,2.72) 8(-16.51,-2.72) 9(-13.97,2.72) 10(-13.97,-2.72) 11(-11.43,2.72) 12(-11.43,-2.72) 13(-8.89,2.72) 14(-8.89,-2.72) 15(-6.35,2.72) 16(-6.35,-2.72) 17(-3.81,2.72) 18(-3.81,-2.72) 19(-1.27,2.72) 20(-1.27,-2.72) 21(1.27,2.72) 22(1.27,-2.72) 23(3.81,2.72) 24(3.81,-2.72) 25(6.35,2.72) 26(6.35,-2.72) 27(8.89,2.72) 28(8.89,-2.72) 29(11.43,2.72) 30(11.43,-2.72) 31(13.97,2.72) 32(13.97,-2.72) 33(16.51,2.72) 34(16.51,-2.72) 35(19.05,2.72) 36(19.05,-2.72) 37(21.59,2.72) 38(21.59,-2.72) 39(24.13,2.72) 40(24.13,-2.72)
  round 0.97 hole 0.97: Un1(-24.13,1.27) Un2(-24.13,-1.27) Un4(-21.59,1.27) Un5(-21.59,-1.27) Un6(-19.05,1.27) Un7(-19.05,-1.27) Un8(-16.51,1.27) Un9(-16.51,-1.27) Un10(-13.97,1.27) Un11(-13.97,-1.27) Un12(-11.43,1.27) Un13(-11.43,-1.27) Un14(-8.89,1.27) Un15(-8.89,-1.27) Un16(-6.35,1.27) Un17(-6.35,-1.27) Un18(-3.81,1.27) Un19(-3.81,-1.27) Un20(-1.27,1.27) Un21(-1.27,-1.27) Un22(1.27,1.27) Un23(1.27,-1.27) Un24(3.81,1.27) Un25(3.81,-1.27) Un26(6.35,1.27) Un27(6.35,-1.27) Un28(8.89,1.27) Un29(8.89,-1.27) Un30(11.43,1.27) Un31(11.43,-1.27) Un32(13.97,1.27) Un33(13.97,-1.27) Un34(16.51,1.27) Un35(16.51,-1.27) Un36(19.05,1.27) Un37(19.05,-1.27) Un38(21.59,1.27) Un39(21.59,-1.27) Un41(24.13,1.27) Un42(24.13,-1.27)
  round 1.19 hole 1.19: Un3(-22.86,0) Un40(22.86,0)
F.SilkS:
  lines w0.254: -25.025,-2.65 -25.51,-2.65 -25.51,2.65 -25.025,2.65 -25.025,3.56 ; -23.235,-2.65 -22.485,-2.65 ; -23.235,2.65 -22.485,2.65 ; -20.695,-2.65 -19.945,-2.65 ; -20.695,2.65 -19.945,2.65 ; -18.155,-2.65 -17.405,-2.65 ; -18.155,2.65 -17.405,2.65 ; -15.615,-2.65 -14.865,-2.65 ; -15.615,2.65 -14.865,2.65 ; -13.075,-2.65 -12.325,-2.65 ; -13.075,2.65 -12.325,2.65 ; -10.535,-2.65 -9.785,-2.65 ; -10.535,2.65 -9.785,2.65 ; -7.995,-2.65 -7.245,-2.65 ; -7.995,2.65 -7.245,2.65 ; -5.455,-2.65 -4.705,-2.65 ; -5.455,2.65 -4.705,2.65 ; -2.915,-2.65 -2.165,-2.65 ; -2.915,2.65 -2.165,2.65 ; -0.375,-2.65 0.375,-2.65 ; -0.375,2.65 0.375,2.65 ; 2.165,-2.65 2.915,-2.65 ; 2.165,2.65 2.915,2.65 ; 4.705,-2.65 5.455,-2.65 ; 4.705,2.65 5.455,2.65 ; 7.245,-2.65 7.995,-2.65 ; 7.245,2.65 7.995,2.65 ; 9.785,-2.65 10.535,-2.65 ; 9.785,2.65 10.535,2.65 ; 12.325,-2.65 13.075,-2.65 ; 12.325,2.65 13.075,2.65 ; 14.865,-2.65 15.615,-2.65 ; 14.865,2.65 15.615,2.65 ; 17.405,-2.65 18.155,-2.65 ; 17.405,2.65 18.155,2.65 ; 19.945,-2.65 20.695,-2.65 ; 19.945,2.65 20.695,2.65 ; 22.485,-2.65 23.235,-2.65 ; 22.485,2.65 23.235,2.65 ; 25.025,-2.65 25.51,-2.65 25.51,2.65 25.025,2.65
Top Assembly:
  lines w0.254: -24.63,2.54 -24.13,1.833 -23.63,2.54 ; -25.4,-2.54 25.4,-2.54 25.4,2.54 -25.4,2.54 -25.4,-2.54
  text "'.Designator'" at -4.047,-2.68 h1
Top Courtyard:
  lines w0.254: -25.9,-4.07 25.9,-4.07 25.9,4.07 -25.9,4.07 -25.9,-4.07
Top Designator:
  text ".Designator" at -7.618,-0.508 h1.52

## Samtec_HLE-120-02-xxx-DV-BE_2x20_P2.54mm_Horizontal [mm]
pads (80):
  rect 1.27x1.68 smd: 1(-24.13,2.72) 2(-24.13,-2.72) 3(-21.59,2.72) 4(-21.59,-2.72) 5(-19.05,2.72) 6(-19.05,-2.72) 7(-16.51,2.72) 8(-16.51,-2.72) 9(-13.97,2.72) 10(-13.97,-2.72) 11(-11.43,2.72) 12(-11.43,-2.72) 13(-8.89,2.72) 14(-8.89,-2.72) 15(-6.35,2.72) 16(-6.35,-2.72) 17(-3.81,2.72) 18(-3.81,-2.72) 19(-1.27,2.72) 20(-1.27,-2.72) 21(1.27,2.72) 22(1.27,-2.72) 23(3.81,2.72) 24(3.81,-2.72) 25(6.35,2.72) 26(6.35,-2.72) 27(8.89,2.72) 28(8.89,-2.72) 29(11.43,2.72) 30(11.43,-2.72) 31(13.97,2.72) 32(13.97,-2.72) 33(16.51,2.72) 34(16.51,-2.72) 35(19.05,2.72) 36(19.05,-2.72) 37(21.59,2.72) 38(21.59,-2.72) 39(24.13,2.72) 40(24.13,-2.72)
  round 0.97 hole 0.97: Un1(-24.13,1.27) Un2(-24.13,-1.27) Un3(-21.59,1.27) Un4(-21.59,-1.27) Un5(-19.05,1.27) Un6(-19.05,-1.27) Un7(-16.51,1.27) Un8(-16.51,-1.27) Un9(-13.97,1.27) Un10(-13.97,-1.27) Un11(-11.43,1.27) Un12(-11.43,-1.27) Un13(-8.89,1.27) Un14(-8.89,-1.27) Un15(-6.35,1.27) Un16(-6.35,-1.27) Un17(-3.81,1.27) Un18(-3.81,-1.27) Un19(-1.27,1.27) Un20(-1.27,-1.27) Un21(1.27,1.27) Un22(1.27,-1.27) Un23(3.81,1.27) Un24(3.81,-1.27) Un25(6.35,1.27) Un26(6.35,-1.27) Un27(8.89,1.27) Un28(8.89,-1.27) Un29(11.43,1.27) Un30(11.43,-1.27) Un31(13.97,1.27) Un32(13.97,-1.27) Un33(16.51,1.27) Un34(16.51,-1.27) Un35(19.05,1.27) Un36(19.05,-1.27) Un37(21.59,1.27) Un38(21.59,-1.27) Un39(24.13,1.27) Un40(24.13,-1.27)
F.SilkS:
  lines w0.254: -25.025,-2.65 -25.51,-2.65 -25.51,2.65 -25.025,2.65 -25.025,3.56 ; -23.235,-2.65 -22.485,-2.65 ; -23.235,2.65 -22.485,2.65 ; -20.695,-2.65 -19.945,-2.65 ; -20.695,2.65 -19.945,2.65 ; -18.155,-2.65 -17.405,-2.65 ; -18.155,2.65 -17.405,2.65 ; -15.615,-2.65 -14.865,-2.65 ; -15.615,2.65 -14.865,2.65 ; -13.075,-2.65 -12.325,-2.65 ; -13.075,2.65 -12.325,2.65 ; -10.535,-2.65 -9.785,-2.65 ; -10.535,2.65 -9.785,2.65 ; -7.995,-2.65 -7.245,-2.65 ; -7.995,2.65 -7.245,2.65 ; -5.455,-2.65 -4.705,-2.65 ; -5.455,2.65 -4.705,2.65 ; -2.915,-2.65 -2.165,-2.65 ; -2.915,2.65 -2.165,2.65 ; -0.375,-2.65 0.375,-2.65 ; -0.375,2.65 0.375,2.65 ; 2.165,-2.65 2.915,-2.65 ; 2.165,2.65 2.915,2.65 ; 4.705,-2.65 5.455,-2.65 ; 4.705,2.65 5.455,2.65 ; 7.245,-2.65 7.995,-2.65 ; 7.245,2.65 7.995,2.65 ; 9.785,-2.65 10.535,-2.65 ; 9.785,2.65 10.535,2.65 ; 12.325,-2.65 13.075,-2.65 ; 12.325,2.65 13.075,2.65 ; 14.865,-2.65 15.615,-2.65 ; 14.865,2.65 15.615,2.65 ; 17.405,-2.65 18.155,-2.65 ; 17.405,2.65 18.155,2.65 ; 19.945,-2.65 20.695,-2.65 ; 19.945,2.65 20.695,2.65 ; 22.485,-2.65 23.235,-2.65 ; 22.485,2.65 23.235,2.65 ; 25.025,-2.65 25.51,-2.65 25.51,2.65 25.025,2.65
Top Assembly:
  lines w0.254: -24.63,2.54 -24.13,1.833 -23.63,2.54 ; -25.4,-2.54 25.4,-2.54 25.4,2.54 -25.4,2.54 -25.4,-2.54
  text "'.Designator'" at -4.047,-2.68 h1
Top Courtyard:
  lines w0.254: -25.9,-4.07 25.9,-4.07 25.9,4.07 -25.9,4.07 -25.9,-4.07
Top Designator:
  text ".Designator" at -7.618,-0.508 h1.52

## Samtec_HLE-120-02-xxx-DV-LC_2x20_P2.54mm_Horizontal [mm]
pads (42):
  rect 1.27x2.29 smd: 1(-24.13,2.525) 2(-24.13,-2.525) 3(-21.59,2.525) 4(-21.59,-2.525) 5(-19.05,2.525) 6(-19.05,-2.525) 7(-16.51,2.525) 8(-16.51,-2.525) 9(-13.97,2.525) 10(-13.97,-2.525) 11(-11.43,2.525) 12(-11.43,-2.525) 13(-8.89,2.525) 14(-8.89,-2.525) 15(-6.35,2.525) 16(-6.35,-2.525) 17(-3.81,2.525) 18(-3.81,-2.525) 19(-1.27,2.525) 20(-1.27,-2.525) 21(1.27,2.525) 22(1.27,-2.525) 23(3.81,2.525) 24(3.81,-2.525) 25(6.35,2.525) 26(6.35,-2.525) 27(8.89,2.525) 28(8.89,-2.525) 29(11.43,2.525) 30(11.43,-2.525) 31(13.97,2.525) 32(13.97,-2.525) 33(16.51,2.525) 34(16.51,-2.525) 35(19.05,2.525) 36(19.05,-2.525) 37(21.59,2.525) 38(21.59,-2.525) 39(24.13,2.525) 40(24.13,-2.525)
  round 1.19 hole 1.19: Un1(-22.86,0) Un2(22.86,0)
F.SilkS:
  lines w0.254: -25.025,-2.65 -25.51,-2.65 -25.51,2.65 -25.025,2.65 -25.025,3.67 ; -23.235,-2.65 -22.485,-2.65 ; -23.235,2.65 -22.485,2.65 ; -20.695,-2.65 -19.945,-2.65 ; -20.695,2.65 -19.945,2.65 ; -18.155,-2.65 -17.405,-2.65 ; -18.155,2.65 -17.405,2.65 ; -15.615,-2.65 -14.865,-2.65 ; -15.615,2.65 -14.865,2.65 ; -13.075,-2.65 -12.325,-2.65 ; -13.075,2.65 -12.325,2.65 ; -10.535,-2.65 -9.785,-2.65 ; -10.535,2.65 -9.785,2.65 ; -7.995,-2.65 -7.245,-2.65 ; -7.995,2.65 -7.245,2.65 ; -5.455,-2.65 -4.705,-2.65 ; -5.455,2.65 -4.705,2.65 ; -2.915,-2.65 -2.165,-2.65 ; -2.915,2.65 -2.165,2.65 ; -0.375,-2.65 0.375,-2.65 ; -0.375,2.65 0.375,2.65 ; 2.165,-2.65 2.915,-2.65 ; 2.165,2.65 2.915,2.65 ; 4.705,-2.65 5.455,-2.65 ; 4.705,2.65 5.455,2.65 ; 7.245,-2.65 7.995,-2.65 ; 7.245,2.65 7.995,2.65 ; 9.785,-2.65 10.535,-2.65 ; 9.785,2.65 10.535,2.65 ; 12.325,-2.65 13.075,-2.65 ; 12.325,2.65 13.075,2.65 ; 14.865,-2.65 15.615,-2.65 ; 14.865,2.65 15.615,2.65 ; 17.405,-2.65 18.155,-2.65 ; 17.405,2.65 18.155,2.65 ; 19.945,-2.65 20.695,-2.65 ; 19.945,2.65 20.695,2.65 ; 22.485,-2.65 23.235,-2.65 ; 22.485,2.65 23.235,2.65 ; 25.025,-2.65 25.51,-2.65 25.51,2.65 25.025,2.65
Top Assembly:
  lines w0.254: -24.63,2.54 -24.13,1.833 -23.63,2.54 ; -25.4,-2.54 25.4,-2.54 25.4,2.54 -25.4,2.54 -25.4,-2.54
  text "'.Designator'" at -4.047,-2.68 h1
Top Courtyard:
  lines w0.254: -25.9,-4.17 25.9,-4.17 25.9,4.17 -25.9,4.17 -25.9,-4.17
Top Designator:
  text ".Designator" at -7.618,-0.508 h1.52

## Samtec_HLE-120-02-xxx-DV_2x20_P2.54mm_Horizontal [mm]
pads (40):
  rect 1.27x2.29 smd: 1(-24.13,2.525) 2(-24.13,-2.525) 3(-21.59,2.525) 4(-21.59,-2.525) 5(-19.05,2.525) 6(-19.05,-2.525) 7(-16.51,2.525) 8(-16.51,-2.525) 9(-13.97,2.525) 10(-13.97,-2.525) 11(-11.43,2.525) 12(-11.43,-2.525) 13(-8.89,2.525) 14(-8.89,-2.525) 15(-6.35,2.525) 16(-6.35,-2.525) 17(-3.81,2.525) 18(-3.81,-2.525) 19(-1.27,2.525) 20(-1.27,-2.525) 21(1.27,2.525) 22(1.27,-2.525) 23(3.81,2.525) 24(3.81,-2.525) 25(6.35,2.525) 26(6.35,-2.525) 27(8.89,2.525) 28(8.89,-2.525) 29(11.43,2.525) 30(11.43,-2.525) 31(13.97,2.525) 32(13.97,-2.525) 33(16.51,2.525) 34(16.51,-2.525) 35(19.05,2.525) 36(19.05,-2.525) 37(21.59,2.525) 38(21.59,-2.525) 39(24.13,2.525) 40(24.13,-2.525)
F.SilkS:
  lines w0.254: -25.025,-2.65 -25.51,-2.65 -25.51,2.65 -25.025,2.65 -25.025,3.67 ; -23.235,-2.65 -22.485,-2.65 ; -23.235,2.65 -22.485,2.65 ; -20.695,-2.65 -19.945,-2.65 ; -20.695,2.65 -19.945,2.65 ; -18.155,-2.65 -17.405,-2.65 ; -18.155,2.65 -17.405,2.65 ; -15.615,-2.65 -14.865,-2.65 ; -15.615,2.65 -14.865,2.65 ; -13.075,-2.65 -12.325,-2.65 ; -13.075,2.65 -12.325,2.65 ; -10.535,-2.65 -9.785,-2.65 ; -10.535,2.65 -9.785,2.65 ; -7.995,-2.65 -7.245,-2.65 ; -7.995,2.65 -7.245,2.65 ; -5.455,-2.65 -4.705,-2.65 ; -5.455,2.65 -4.705,2.65 ; -2.915,-2.65 -2.165,-2.65 ; -2.915,2.65 -2.165,2.65 ; -0.375,-2.65 0.375,-2.65 ; -0.375,2.65 0.375,2.65 ; 2.165,-2.65 2.915,-2.65 ; 2.165,2.65 2.915,2.65 ; 4.705,-2.65 5.455,-2.65 ; 4.705,2.65 5.455,2.65 ; 7.245,-2.65 7.995,-2.65 ; 7.245,2.65 7.995,2.65 ; 9.785,-2.65 10.535,-2.65 ; 9.785,2.65 10.535,2.65 ; 12.325,-2.65 13.075,-2.65 ; 12.325,2.65 13.075,2.65 ; 14.865,-2.65 15.615,-2.65 ; 14.865,2.65 15.615,2.65 ; 17.405,-2.65 18.155,-2.65 ; 17.405,2.65 18.155,2.65 ; 19.945,-2.65 20.695,-2.65 ; 19.945,2.65 20.695,2.65 ; 22.485,-2.65 23.235,-2.65 ; 22.485,2.65 23.235,2.65 ; 25.025,-2.65 25.51,-2.65 25.51,2.65 25.025,2.65
Top Assembly:
  lines w0.254: -24.63,2.54 -24.13,1.833 -23.63,2.54 ; -25.4,-2.54 25.4,-2.54 25.4,2.54 -25.4,2.54 -25.4,-2.54
  text "'.Designator'" at -4.047,-2.68 h1
Top Courtyard:
  lines w0.254: -25.9,-4.17 25.9,-4.17 25.9,4.17 -25.9,4.17 -25.9,-4.17
Top Designator:
  text ".Designator" at -7.618,-0.508 h1.52

## Samtec_HLE-121-02-xxx-DV-A_2x21_P2.54mm_Horizontal [mm]
pads (44):
  rect 1.27x2.29 smd: 1(-25.4,2.525) 2(-25.4,-2.525) 3(-22.86,2.525) 4(-22.86,-2.525) 5(-20.32,2.525) 6(-20.32,-2.525) 7(-17.78,2.525) 8(-17.78,-2.525) 9(-15.24,2.525) 10(-15.24,-2.525) 11(-12.7,2.525) 12(-12.7,-2.525) 13(-10.16,2.525) 14(-10.16,-2.525) 15(-7.62,2.525) 16(-7.62,-2.525) 17(-5.08,2.525) 18(-5.08,-2.525) 19(-2.54,2.525) 20(-2.54,-2.525) 21(0,2.525) 22(0,-2.525) 23(2.54,2.525) 24(2.54,-2.525) 25(5.08,2.525) 26(5.08,-2.525) 27(7.62,2.525) 28(7.62,-2.525) 29(10.16,2.525) 30(10.16,-2.525) 31(12.7,2.525) 32(12.7,-2.525) 33(15.24,2.525) 34(15.24,-2.525) 35(17.78,2.525) 36(17.78,-2.525) 37(20.32,2.525) 38(20.32,-2.525) 39(22.86,2.525) 40(22.86,-2.525) 41(25.4,2.525) 42(25.4,-2.525)
  round 1.78 hole 1.78: Un1(-24.13,0) Un2(24.13,0)
F.SilkS:
  lines w0.254: -26.295,-2.65 -26.78,-2.65 -26.78,2.65 -26.295,2.65 -26.295,3.67 ; -24.505,-2.65 -23.755,-2.65 ; -24.505,2.65 -23.755,2.65 ; -21.965,-2.65 -21.215,-2.65 ; -21.965,2.65 -21.215,2.65 ; -19.425,-2.65 -18.675,-2.65 ; -19.425,2.65 -18.675,2.65 ; -16.885,-2.65 -16.135,-2.65 ; -16.885,2.65 -16.135,2.65 ; -14.345,-2.65 -13.595,-2.65 ; -14.345,2.65 -13.595,2.65 ; -11.805,-2.65 -11.055,-2.65 ; -11.805,2.65 -11.055,2.65 ; -9.265,-2.65 -8.515,-2.65 ; -9.265,2.65 -8.515,2.65 ; -6.725,-2.65 -5.975,-2.65 ; -6.725,2.65 -5.975,2.65 ; -4.185,-2.65 -3.435,-2.65 ; -4.185,2.65 -3.435,2.65 ; -1.645,-2.65 -0.895,-2.65 ; -1.645,2.65 -0.895,2.65 ; 0.895,-2.65 1.645,-2.65 ; 0.895,2.65 1.645,2.65 ; 3.435,-2.65 4.185,-2.65 ; 3.435,2.65 4.185,2.65 ; 5.975,-2.65 6.725,-2.65 ; 5.975,2.65 6.725,2.65 ; 8.515,-2.65 9.265,-2.65 ; 8.515,2.65 9.265,2.65 ; 11.055,-2.65 11.805,-2.65 ; 11.055,2.65 11.805,2.65 ; 13.595,-2.65 14.345,-2.65 ; 13.595,2.65 14.345,2.65 ; 16.135,-2.65 16.885,-2.65 ; 16.135,2.65 16.885,2.65 ; 18.675,-2.65 19.425,-2.65 ; 18.675,2.65 19.425,2.65 ; 21.215,-2.65 21.965,-2.65 ; 21.215,2.65 21.965,2.65 ; 23.755,-2.65 24.505,-2.65 ; 23.755,2.65 24.505,2.65 ; 26.295,-2.65 26.78,-2.65 26.78,2.65 26.295,2.65
Top Assembly:
  lines w0.254: -25.9,2.54 -25.4,1.833 -24.9,2.54 ; -26.67,-2.54 26.67,-2.54 26.67,2.54 -26.67,2.54 -26.67,-2.54
  text "'.Designator'" at -4.047,-2.68 h1
Top Courtyard:
  lines w0.254: -27.17,-4.17 27.17,-4.17 27.17,4.17 -27.17,4.17 -27.17,-4.17
Top Designator:
  text ".Designator" at -7.618,-0.508 h1.52

## Samtec_HLE-121-02-xxx-DV-BE-A_2x21_P2.54mm_Horizontal [mm]
pads (86):
  rect 1.27x1.68 smd: 1(-25.4,2.72) 2(-25.4,-2.72) 3(-22.86,2.72) 4(-22.86,-2.72) 5(-20.32,2.72) 6(-20.32,-2.72) 7(-17.78,2.72) 8(-17.78,-2.72) 9(-15.24,2.72) 10(-15.24,-2.72) 11(-12.7,2.72) 12(-12.7,-2.72) 13(-10.16,2.72) 14(-10.16,-2.72) 15(-7.62,2.72) 16(-7.62,-2.72) 17(-5.08,2.72) 18(-5.08,-2.72) 19(-2.54,2.72) 20(-2.54,-2.72) 21(0,2.72) 22(0,-2.72) 23(2.54,2.72) 24(2.54,-2.72) 25(5.08,2.72) 26(5.08,-2.72) 27(7.62,2.72) 28(7.62,-2.72) 29(10.16,2.72) 30(10.16,-2.72) 31(12.7,2.72) 32(12.7,-2.72) 33(15.24,2.72) 34(15.24,-2.72) 35(17.78,2.72) 36(17.78,-2.72) 37(20.32,2.72) 38(20.32,-2.72) 39(22.86,2.72) 40(22.86,-2.72) 41(25.4,2.72) 42(25.4,-2.72)
  round 0.97 hole 0.97: Un1(-25.4,1.27) Un2(-25.4,-1.27) Un4(-22.86,1.27) Un5(-22.86,-1.27) Un6(-20.32,1.27) Un7(-20.32,-1.27) Un8(-17.78,1.27) Un9(-17.78,-1.27) Un10(-15.24,1.27) Un11(-15.24,-1.27) Un12(-12.7,1.27) Un13(-12.7,-1.27) Un14(-10.16,1.27) Un15(-10.16,-1.27) Un16(-7.62,1.27) Un17(-7.62,-1.27) Un18(-5.08,1.27) Un19(-5.08,-1.27) Un20(-2.54,1.27) Un21(-2.54,-1.27) Un22(0,1.27) Un23(0,-1.27) Un24(2.54,1.27) Un25(2.54,-1.27) Un26(5.08,1.27) Un27(5.08,-1.27) Un28(7.62,1.27) Un29(7.62,-1.27) Un30(10.16,1.27) Un31(10.16,-1.27) Un32(12.7,1.27) Un33(12.7,-1.27) Un34(15.24,1.27) Un35(15.24,-1.27) Un36(17.78,1.27) Un37(17.78,-1.27) Un38(20.32,1.27) Un39(20.32,-1.27) Un40(22.86,1.27) Un41(22.86,-1.27) Un43(25.4,1.27) Un44(25.4,-1.27)
  round 1.78 hole 1.78: Un3(-24.13,0) Un42(24.13,0)
F.SilkS:
  lines w0.254: -26.295,-2.65 -26.78,-2.65 -26.78,2.65 -26.295,2.65 -26.295,3.56 ; -24.505,-2.65 -23.755,-2.65 ; -24.505,2.65 -23.755,2.65 ; -21.965,-2.65 -21.215,-2.65 ; -21.965,2.65 -21.215,2.65 ; -19.425,-2.65 -18.675,-2.65 ; -19.425,2.65 -18.675,2.65 ; -16.885,-2.65 -16.135,-2.65 ; -16.885,2.65 -16.135,2.65 ; -14.345,-2.65 -13.595,-2.65 ; -14.345,2.65 -13.595,2.65 ; -11.805,-2.65 -11.055,-2.65 ; -11.805,2.65 -11.055,2.65 ; -9.265,-2.65 -8.515,-2.65 ; -9.265,2.65 -8.515,2.65 ; -6.725,-2.65 -5.975,-2.65 ; -6.725,2.65 -5.975,2.65 ; -4.185,-2.65 -3.435,-2.65 ; -4.185,2.65 -3.435,2.65 ; -1.645,-2.65 -0.895,-2.65 ; -1.645,2.65 -0.895,2.65 ; 0.895,-2.65 1.645,-2.65 ; 0.895,2.65 1.645,2.65 ; 3.435,-2.65 4.185,-2.65 ; 3.435,2.65 4.185,2.65 ; 5.975,-2.65 6.725,-2.65 ; 5.975,2.65 6.725,2.65 ; 8.515,-2.65 9.265,-2.65 ; 8.515,2.65 9.265,2.65 ; 11.055,-2.65 11.805,-2.65 ; 11.055,2.65 11.805,2.65 ; 13.595,-2.65 14.345,-2.65 ; 13.595,2.65 14.345,2.65 ; 16.135,-2.65 16.885,-2.65 ; 16.135,2.65 16.885,2.65 ; 18.675,-2.65 19.425,-2.65 ; 18.675,2.65 19.425,2.65 ; 21.215,-2.65 21.965,-2.65 ; 21.215,2.65 21.965,2.65 ; 23.755,-2.65 24.505,-2.65 ; 23.755,2.65 24.505,2.65 ; 26.295,-2.65 26.78,-2.65 26.78,2.65 26.295,2.65
Top Assembly:
  lines w0.254: -25.9,2.54 -25.4,1.833 -24.9,2.54 ; -26.67,-2.54 26.67,-2.54 26.67,2.54 -26.67,2.54 -26.67,-2.54
  text "'.Designator'" at -4.047,-2.68 h1
Top Courtyard:
  lines w0.254: -27.17,-4.07 27.17,-4.07 27.17,4.07 -27.17,4.07 -27.17,-4.07
Top Designator:
  text ".Designator" at -7.618,-0.508 h1.52